# EAGLE library part ICSP (library ICSP)
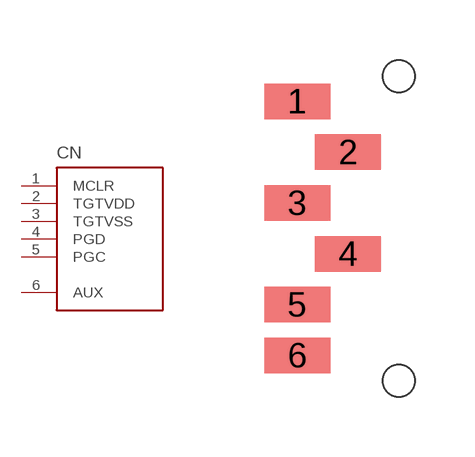
[diagram p0: symbol with the pads of ICSP_SMD; footprint ICSP_SMD]

Designator prefix CN

## ICSPSMD  [ICSP_SMD]
1  MCLR
2  TGTVDD
3  TGTVSS
4  PGD
5  PGC
6  AUX

## Footprint ICSP_SMD (pad centres in mm)
smd 1.651 x 0.889: 1 -0.635,3.175; 2 0.635,1.905; 3 -0.635,0.635; 4 0.635,-0.635; 5 -0.635,-1.905; 6 -0.635,-3.175
hole 0.8 at 1.905,3.81
hole 0.8 at 1.905,-3.81